# EAGLE library part DRV_8825_SOCKET (library cubey)
DIP socket for DRV_8825 module from Pololu
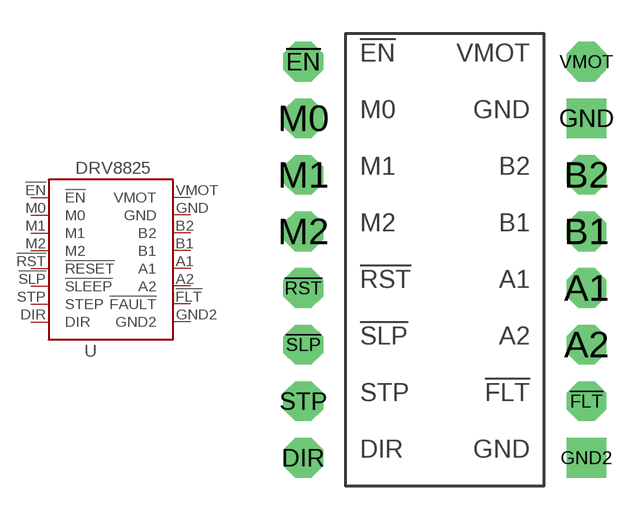
[diagram p0: symbol with the pads of DRV_8825_DIP; footprint DRV_8825_DIP]

Designator prefix -

## DRV_8825_SOCKET  [DRV_8825_DIP]
!EN  !EN
!FLT  !FAULT
!RST  !RESET
!SLP  !SLEEP
A1  A1  pwr
A2  A2  pwr
B1  B1  pwr
B2  B2  pwr
DIR  DIR
GND  GND  sup
GND2  GND2  sup
M0  M0
M1  M1
M2  M2
STP  STEP
VMOT  VMOT  sup

## Footprint DRV_8825_DIP (pad centres in mm)
drill 1.016 pad 1.778 octagon: !EN -7.62,10.16; !FLT 5.08,-5.08; !RST -7.62,0; !SLP -7.62,-2.54; A1 5.08,0; A2 5.08,-2.54; B1 5.08,2.54; B2 5.08,5.08; DIR -7.62,-7.62; M0 -7.62,7.62; M1 -7.62,5.08; M2 -7.62,2.54; STP -7.62,-5.08; VMOT 5.08,10.16
drill 1.016 pad 1.778 square: GND 5.08,7.62; GND2 5.08,-7.62